# EAGLE library part CD40109BPW (library pandasat)
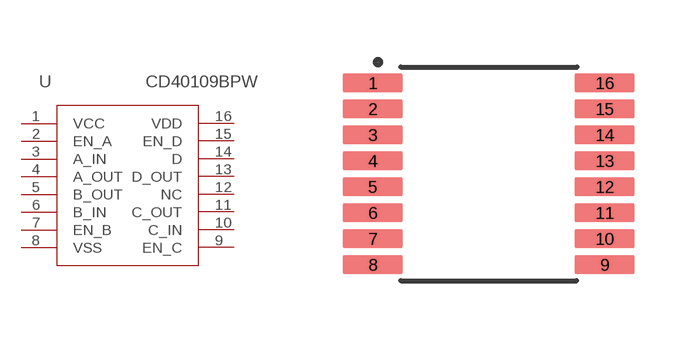
[diagram p4: symbol with the pads of TSSOP; footprint TSSOP]

Designator prefix U

## CD40109BPW  [TSSOP]
1  VCC
2  EN_A
3  A_IN
4  A_OUT
5  B_OUT
6  B_IN
7  EN_B
8  VSS
9  EN_C
10  C_IN
11  C_OUT
12  NC
13  D_OUT
14  D
15  EN_D
16  VDD

## Footprint TSSOP (pad centres in mm)
smd 1.5 x 0.45: 1 -2.9,1.95; 2 -2.9,1.3; 3 -2.9,0.65; 4 -2.9,0; 5 -2.9,-0.65; 6 -2.9,-1.3; 7 -2.9,-1.95; 8 -2.9,-2.6; 9 2.9,-2.6; 10 2.9,-1.95; 11 2.9,-1.3; 12 2.9,-0.65; 13 2.9,0; 14 2.9,0.65; 15 2.9,1.3; 16 2.9,1.95